# EAGLE library part MAXIM_DS3231MZ+ (library Upverter Library)
PR-RTC-DS3231M-IL8
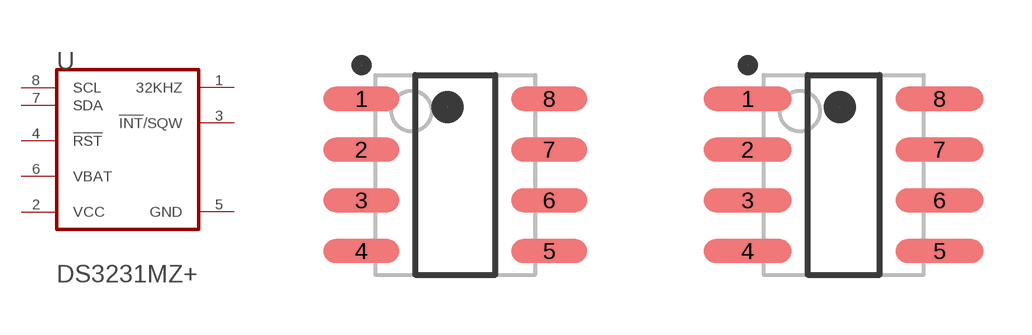
[diagram p0: symbol with the pads of MAXIM_DS3231MZ+_0; footprints MAXIM_DS3231MZ+_0, MAXIM_DS3231MZ+_1]

Designator prefix U

## MAXIM_DS3231MZ+MAXIM_DS3231MZ+_0_0 (Code__IPC: SOIC127P600-8; Code__JEDEC: MS-012-AA; Component_Link_1_Description: Manufacturer URL; Component_Link_1_URL: http://www.maxim-ic.com; Component_Link_3_Description: Package Specification; Component_Link_3_URL: http://pdfserv.maxim-ic.com/package_dwgs/21-0041.PDF; Datasheet_Version: Rev 3, Dec-2011; MF: Maxim; MPN: DS3231MZ+; Package_Description: 8-Pin Small-Outline IC, Narrow (0.15in), 1.27 mm Pitch, SOIC (N), Pb-Free; Package_Version: revC, 2010; ciiva_ids: 1021028; datasheet: http://datasheets.maxim-ic.com/en/ds/DS3231M.pdf; footprint_variant_name_0: Level C; footprint_variant_name_1: Level B; footprint_variant_name_2: Level A; import_ts: 1521842515; imported: yes; imported_from: vault; package: S8MK+1; prefix: U; release_date: 1338614628; vault_guid: 819021FA-FBCD-4754-B8D0-574E7A7F9AFC; vault_revision: FF7B981F-4F01-433D-AFC1-B36357757B07)  [MAXIM_DS3231MZ+_0]
1  32KHZ  oc
2  VCC  pwr
3  !INT!/SQW
4  !RST!
5  GND  pwr
6  VBAT  pwr
7  SDA
8  SCL  in

## MAXIM_DS3231MZ+MAXIM_DS3231MZ+_0_1 (Code__IPC: SOIC127P600-8; Code__JEDEC: MS-012-AA; Component_Link_1_Description: Manufacturer URL; Component_Link_1_URL: http://www.maxim-ic.com; Component_Link_3_Description: Package Specification; Component_Link_3_URL: http://pdfserv.maxim-ic.com/package_dwgs/21-0041.PDF; Datasheet_Version: Rev 3, Dec-2011; MF: Maxim; MPN: DS3231MZ+; Package_Description: 8-Pin Small-Outline IC, Narrow (0.15in), 1.27 mm Pitch, SOIC (N), Pb-Free; Package_Version: revC, 2010; ciiva_ids: 1021028; datasheet: http://datasheets.maxim-ic.com/en/ds/DS3231M.pdf; footprint_variant_name_0: Level C; footprint_variant_name_1: Level B; footprint_variant_name_2: Level A; import_ts: 1521842515; imported: yes; imported_from: vault; package: S8MK+1; prefix: U; release_date: 1338614628; vault_guid: 819021FA-FBCD-4754-B8D0-574E7A7F9AFC; vault_revision: FF7B981F-4F01-433D-AFC1-B36357757B07)  [MAXIM_DS3231MZ+_1]
Pads as for MAXIM_DS3231MZ+_0

## MAXIM_DS3231MZ+MAXIM_DS3231MZ+_0_2 (Code__IPC: SOIC127P600-8; Code__JEDEC: MS-012-AA; Component_Link_1_Description: Manufacturer URL; Component_Link_1_URL: http://www.maxim-ic.com; Component_Link_3_Description: Package Specification; Component_Link_3_URL: http://pdfserv.maxim-ic.com/package_dwgs/21-0041.PDF; Datasheet_Version: Rev 3, Dec-2011; MF: Maxim; MPN: DS3231MZ+; Package_Description: 8-Pin Small-Outline IC, Narrow (0.15in), 1.27 mm Pitch, SOIC (N), Pb-Free; Package_Version: revC, 2010; ciiva_ids: 1021028; datasheet: http://datasheets.maxim-ic.com/en/ds/DS3231M.pdf; footprint_variant_name_0: Level C; footprint_variant_name_1: Level B; footprint_variant_name_2: Level A; import_ts: 1521842515; imported: yes; imported_from: vault; package: S8MK+1; prefix: U; release_date: 1338614628; vault_guid: 819021FA-FBCD-4754-B8D0-574E7A7F9AFC; vault_revision: FF7B981F-4F01-433D-AFC1-B36357757B07)  [MAXIM_DS3231MZ+_2]
Pads as for MAXIM_DS3231MZ+_0

## Footprint MAXIM_DS3231MZ+_0 (pad centres in mm)
PR-RTC-DS3231M-IL8
smd 1.9 x 0.6: 1 -2.35,1.905; 2 -2.35,0.635; 3 -2.35,-0.635; 4 -2.35,-1.905; 5 2.35,-1.905; 6 2.35,-0.635; 7 2.35,0.635; 8 2.35,1.905

## Footprint MAXIM_DS3231MZ+_1 (pad centres in mm)
PR-RTC-DS3231M-IL8
smd 2.2 x 0.6: 1 -2.4,1.905; 2 -2.4,0.635; 3 -2.4,-0.635; 4 -2.4,-1.905; 5 2.4,-1.905; 6 2.4,-0.635; 7 2.4,0.635; 8 2.4,1.905

## Footprint MAXIM_DS3231MZ+_2 (pad centres in mm)
PR-RTC-DS3231M-IL8
smd 2.5 x 0.7: 1 -2.45,1.905; 2 -2.45,0.635; 3 -2.45,-0.635; 4 -2.45,-1.905; 5 2.45,-1.905; 6 2.45,-0.635; 7 2.45,0.635; 8 2.45,1.905